# Altium schematic symbol library SCH - POWER - SWITCHMODE - TI TPS54290PWP.SchLib: 1 symbol
Pins are listed as number, name and electrical type; pins without a type are passive.

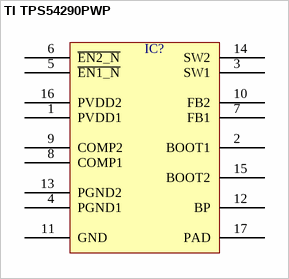
[diagram p0: symbol TI TPS54290PWP]

## TI TPS54290PWP
designator IC?  (value not drawn)
pins: 1 PVDD1, 2 BOOT1, 3 SW1, 4 PGND1, 5 ~{EN1_N}, 6 ~{EN2_N}, 7 FB1, 8 COMP1, 9 COMP2, 10 FB2, 11 GND, 12 BP, 13 PGND2, 14 SW2, 15 BOOT2, 16 PVDD2, 17 PAD